# EAGLE library part DS1374 (library digital_dash)
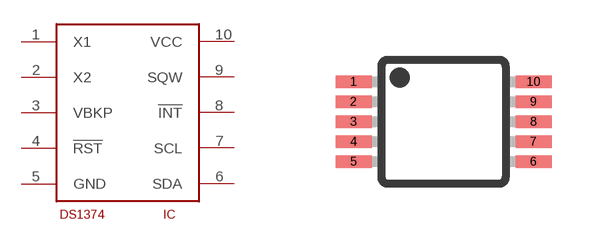
[diagram p7: symbol with the pads of UMAX10; footprint UMAX10]

Designator prefix IC

## DS1374  [UMAX10]
1  X1
2  X2
3  VBKP  pwr
4  !RST  in
5  GND  pwr
6  SDA
7  SCL
8  !INT  out
9  SQW  out
10  VCC  pwr

## Footprint UMAX10 (pad centres in mm)
micro MAX Package
smd 0.9 x 0.32: 1 -2.25,1; 2 -2.25,0.5; 3 -2.25,0; 4 -2.25,-0.5; 5 -2.25,-1; 6 2.25,-1; 7 2.25,-0.5; 8 2.25,0; 9 2.25,0.5; 10 2.25,1